# Altium schematic symbol library SCH - MCU - NUVOTON - NUVOTON NUC505DLA.SchLib: 1 symbol
Pins are listed as number, name and electrical type; pins without a type are passive.

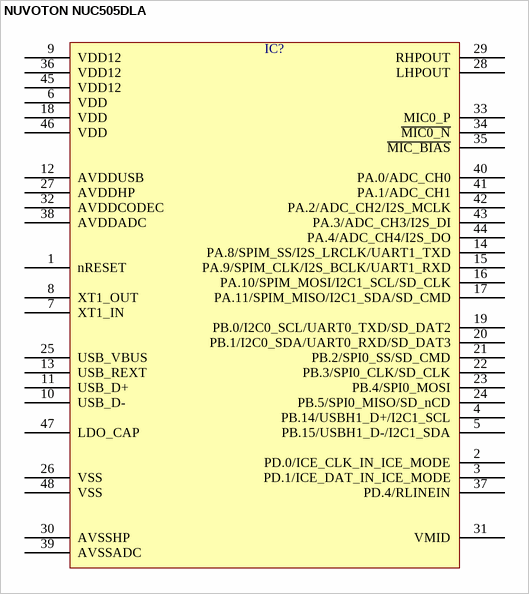
[diagram p0: symbol NUVOTON NUC505DLA]

## NUVOTON NUC505DLA
designator IC?  (value not drawn)
pins: 1 nRESET, 2 PD.0/ICE_CLK_IN_ICE_MODE, 3 PD.1/ICE_DAT_IN_ICE_MODE, 4 PB.14/USBH1_D+/I2C1_SCL, 5 PB.15/USBH1_D-/I2C1_SDA, 6 VDD, 7 XT1_IN, 8 XT1_OUT, 9 VDD12, 10 USB_D-, 11 USB_D+, 12 AVDDUSB, 13 USB_REXT, 14 PA.8/SPIM_SS/I2S_LRCLK/UART1_TXD, 15 PA.9/SPIM_CLK/I2S_BCLK/UART1_RXD, 16 PA.10/SPIM_MOSI/I2C1_SCL/SD_CLK, 17 PA.11/SPIM_MISO/I2C1_SDA/SD_CMD, 18 VDD, 19 PB.0/I2C0_SCL/UART0_TXD/SD_DAT2, 20 PB.1/I2C0_SDA/UART0_RXD/SD_DAT3, 21 PB.2/SPI0_SS/SD_CMD, 22 PB.3/SPI0_CLK/SD_CLK, 23 PB.4/SPI0_MOSI, 24 PB.5/SPI0_MISO/SD_nCD, 25 USB_VBUS, 26 VSS, 27 AVDDHP, 28 LHPOUT, 29 RHPOUT, 30 AVSSHP, 31 VMID, 32 AVDDCODEC, 33 MIC0_P, 34 ~{MIC0_N}, 35 ~{MIC_BIAS}, 36 VDD12, 37 PD.4/RLINEIN, 38 AVDDADC, 39 AVSSADC, 40 PA.0/ADC_CH0, 41 PA.1/ADC_CH1, 42 PA.2/ADC_CH2/I2S_MCLK, 43 PA.3/ADC_CH3/I2S_DI, 44 PA.4/ADC_CH4/I2S_DO, 45 VDD12, 46 VDD, 47 LDO_CAP, 48 VSS